# Altium schematic symbol library SCH - RF - AMPLIFIER - GUERRILLARF GRF2013.SchLib: 1 symbol
Pins are listed as number, name and electrical type; pins without a type are passive.

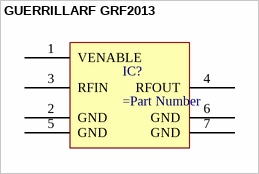
[diagram p0: symbol GUERRILLARF GRF2013]

## GUERRILLARF GRF2013
designator IC?
pins: 1 VENABLE, 2 GND, 3 RFIN, 4 RFOUT, 5 GND, 6 GND, 7 GND